# EAGLE library part INA260 (library GNSS-proto)
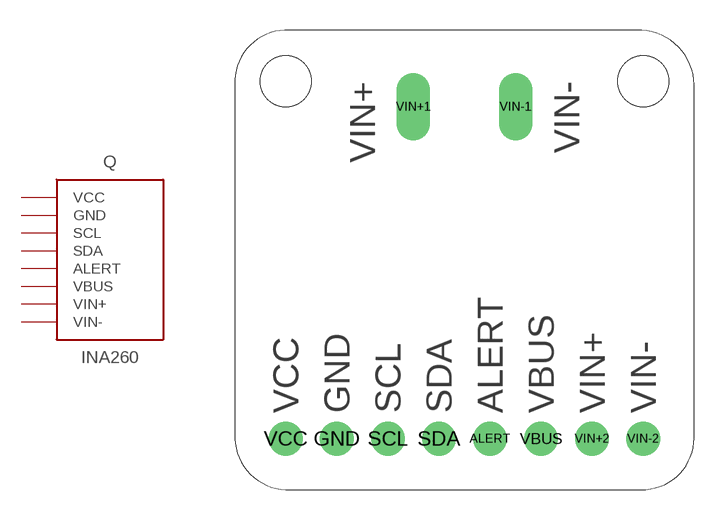
[diagram p3: symbol with the pads of INA260; footprint INA260]

Designator prefix Q

## INA260  [INA260]
ALERT  ALERT
GND  GND
SCL  SCL
SDA  SDA
VBUS  VBUS
VCC  VCC
VIN+1  VIN+
VIN+2  VIN+
VIN-1  VIN-
VIN-2  VIN-

## Footprint INA260 (pad centres in mm)
drill 1 pad 1.676: ALERT 1.27,-8.89; GND -6.35,-8.89; SCL -3.81,-8.89; SDA -1.27,-8.89; VBUS 3.81,-8.89; VCC -8.89,-8.89; VIN+2 6.35,-8.89; VIN-2 8.89,-8.89
drill 1 pad 1.676 long: VIN+1 -2.54,7.62; VIN-1 2.54,7.62
hole 2.54 at -8.89,8.89
hole 2.54 at 8.89,8.89